# EAGLE library part SI8620EC-B-IS (library custom)
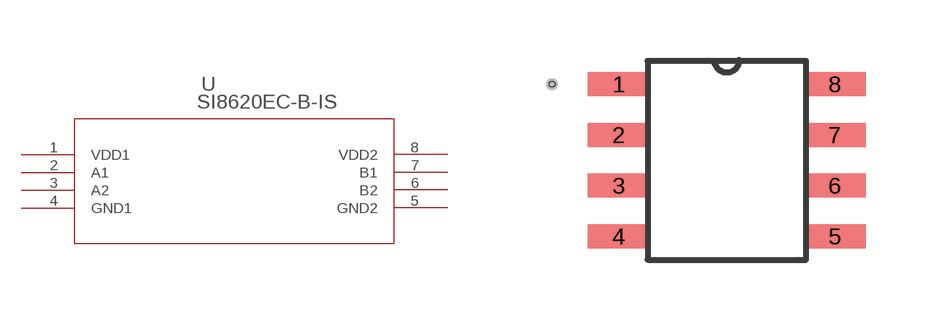
[diagram p1: symbol with the pads of SOIC-8; footprint SOIC-8]

Designator prefix U

## SI8620EC-B-IS  [SOIC-8]
1  VDD1  pas
2  A1  in
3  A2  in
4  GND1  pas
5  GND2  pas
6  B2  out
7  B1  out
8  VDD2  pas

## Footprint SOIC-8 (pad centres in mm)
smd 1.55 x 0.6: 1 -2.7,1.905; 2 -2.7,0.635; 3 -2.7,-0.635; 4 -2.7,-1.905; 5 2.7,-1.905; 6 2.7,-0.635; 7 2.7,0.635; 8 2.7,1.905